# Altium integrated library Infineon_Microcontroller.IntLib: 721 symbols (part 29 of 66)
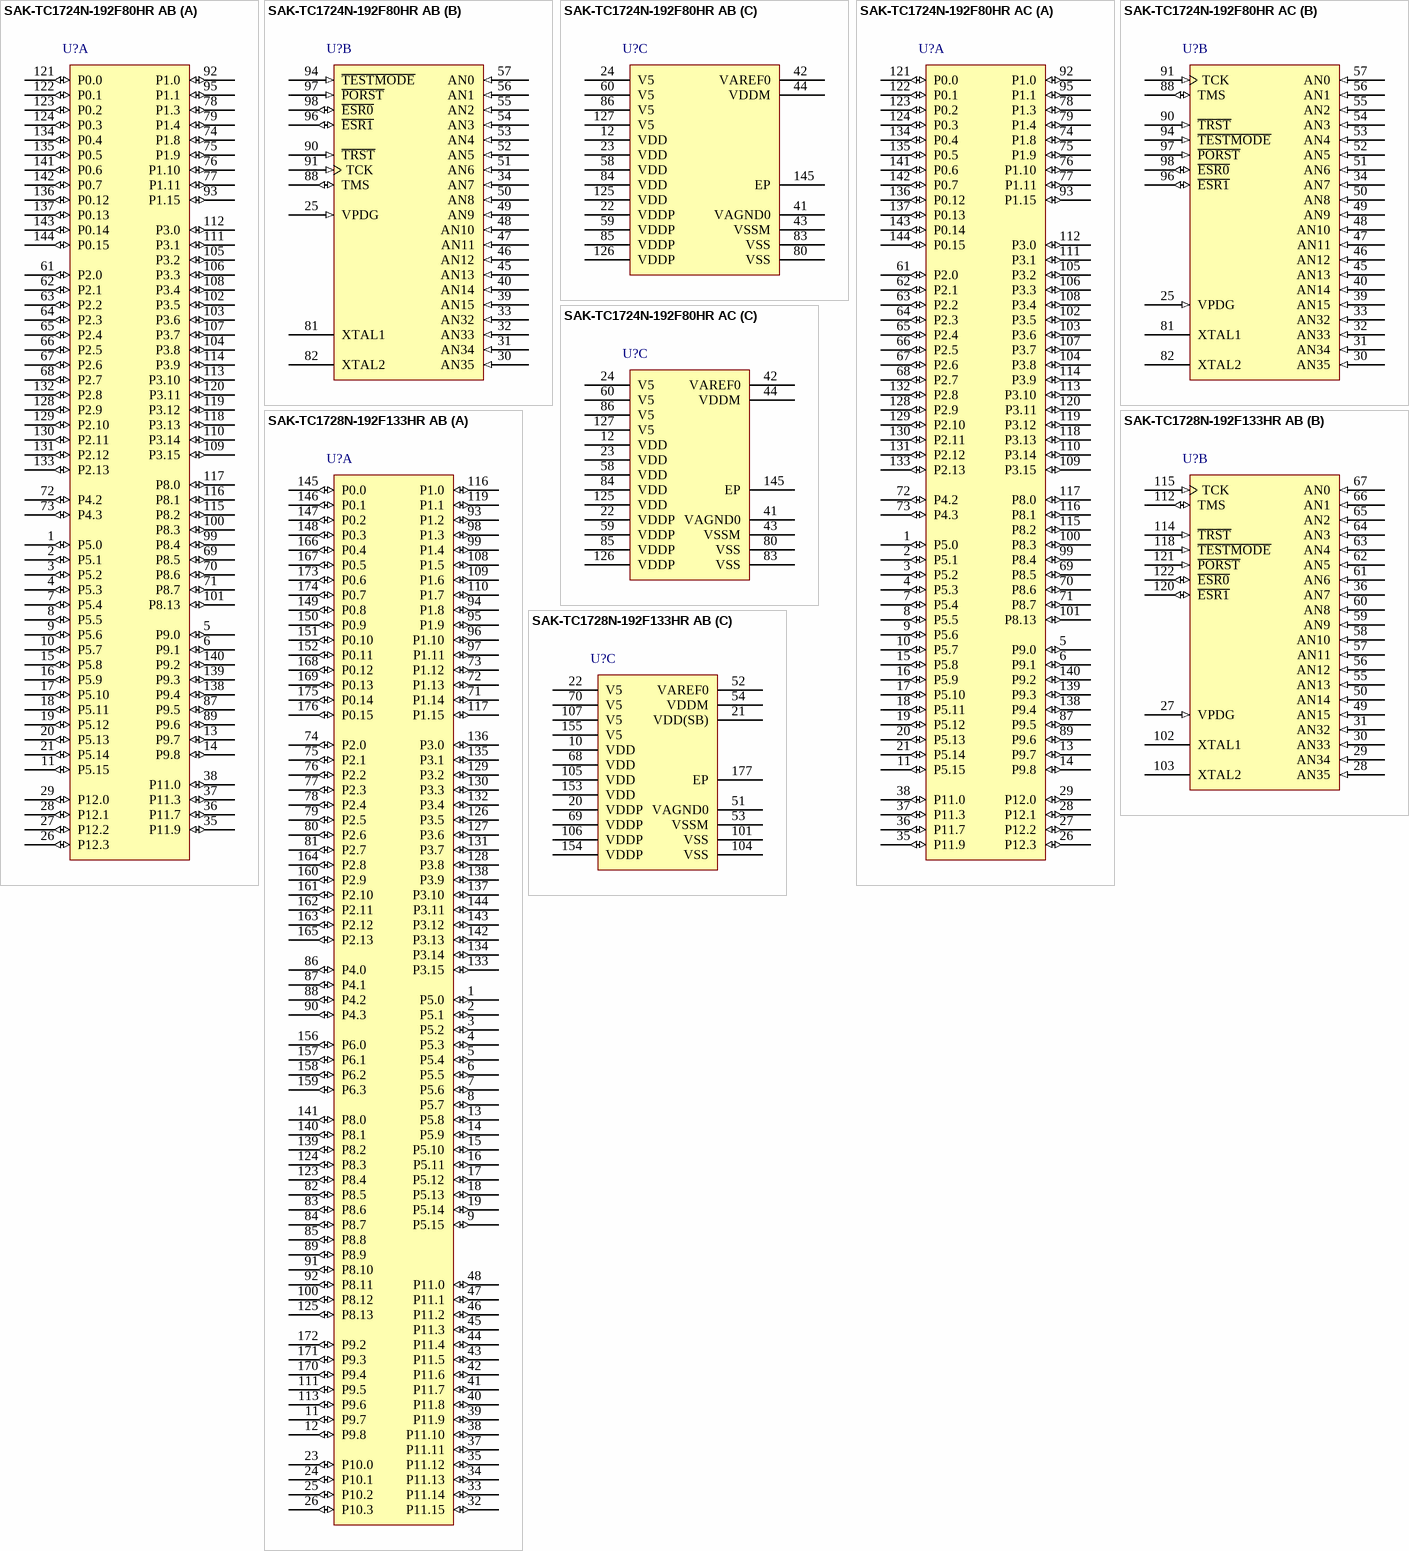
[diagram p146: symbols SAK-TC1724N-192F80HR AB to SAK-TC1728N-192F133HR AB]

## SAK-TC1724N-192F80HR AB
designator U?
80 MHz AUDO MCU with 1.5 MB Program Memory, 152 KByte SRAM, 3.3 V, -40 to 125 degC, PG-LQFP-144, Reel, Green; Manufacturer: Infineon; PartNumber: SAK-TC1724N-192F80HR AB; A / D input lines (incl. FADC): 28; CAN Nodes: 3; Digital I/O Lines: 95; DMA Channels: 16; DSP functionality (e.g MDU/MAC): TRUE; External Bus interface: FALSE; I/O Operation Voltages: 3.3 V; Instruction set architecture: TriCore v1.3.1; Instruction width [bits]: 32/16; LIN BSL loader (for fast Flash programming): FALSE; Max Clock Frequency: 80 MHz; Number of ADC Modules: 2; Program Memory: 1.5 MB; Serial I/O Interfaces: 8; Timed I/O Pins (PWM-Ch,CAPCOM): 77; Timer / Counter: 118; Type of Memory: Flash; Type of Serial I/O Interfaces: ASC(2), SSC(4), MSC(1), MLI(1); DatasheetVersion: Rev. 1.1; PackageVersion: V1.1, 03/2012; PackageReference: PG-LQFP-144-17; PackageDescription: 144-Pin Plastic (Green) Low Profile Quad Flat Package, Body 20 x 20 mm, Pitch 0.5 mm; E2PROM Emulation (Data-Flash): TRUE; FlexRay TM: FALSE; Floating Point Unit: TRUE; Green: TRUE; Halogen-free: TRUE; On-chip clock generation: TRUE; On-chip Voltage Regulator: TRUE; Oscillator Watchdog: TRUE; Packing: Reel; Peripheral Control Processor (PCP): TRUE; Power Modes: 3; SRAM (incl. Cache): 152 KByte; Watchdog Timer: TRUE; Mounting Technology: Surface Mount; Code_JEDEC: J-STD-020C; ComponentLink1Description: Manufacturer URL; ComponentLink1URL: http://www.infineon.com/; ComponentLink2Description: Datasheet; ComponentLink2URL: http://www.infineon.com/dgdl/TC1724_DS_V1.1.pdf?folderId=db3a304412b407950112b409ae7c0343&fileId=db3a30433580b3710135815455840086; ComponentLink3Description: Package Specification; ComponentLink3URL: http://www.infineon.com/dgdl/TC1724_DS_V1.1.pdf?folderId=db3a304412b407950112b409ae7c0343&fileId=db3a30433580b3710135815455840086
footprint INF-PG-LQFP-144-17_N (QFP, 144-Leads, Body 20x20mm, Pitch 0.5mm, Thermal Pad 7.5x7.5mm, IPC Medium Density)
footprint INF-PG-LQFP-144-17_L (QFP, 144-Leads, Body 20x20mm, Pitch 0.5mm, Thermal Pad 7.5x7.5mm, IPC High Density)
footprint INF-PG-LQFP-144-17_M (QFP, 144-Leads, Body 20x20mm, Pitch 0.5mm, Thermal Pad 7.5x7.5mm, IPC Low Density)
part A pins: 1 P5.0 (io), 2 P5.1 (io), 3 P5.2 (io), 4 P5.3 (io), 5 P9.0 (io), 6 P9.1 (io), 7 P5.4 (io), 8 P5.5 (io), 9 P5.6 (io), 10 P5.7 (io), 11 P5.15 (io), 13 P9.7 (io), 14 P9.8 (io), 15 P5.8 (io), 16 P5.9 (io), 17 P5.10 (io), 18 P5.11 (io), 19 P5.12 (io), 20 P5.13 (io), 21 P5.14 (io), 26 P12.3 (io), 27 P12.2 (io), 28 P12.1 (io), 29 P12.0 (io), 35 P11.9 (io), 36 P11.7 (io), 37 P11.3 (io), 38 P11.0 (io), 61 P2.0 (io), 62 P2.1 (io), 63 P2.2 (io), 64 P2.3 (io), 65 P2.4 (io), 66 P2.5 (io), 67 P2.6 (io), 68 P2.7 (io), 69 P8.5 (io), 70 P8.6 (io), 71 P8.7 (io), 72 P4.2 (io), 73 P4.3 (io), 74 P1.8 (io), 75 P1.9 (io), 76 P1.10 (io), 77 P1.11 (io), 78 P1.3 (io), 79 P1.4 (io), 87 P9.5 (io), 89 P9.6 (io), 92 P1.0 (io), 93 P1.15 (io), 95 P1.1 (io), 99 P8.4 (io), 100 P8.3 (io), 101 P8.13 (io), 102 P3.5 (io), 103 P3.6 (io), 104 P3.8 (io), 105 P3.2 (io), 106 P3.3 (io), 107 P3.7 (io), 108 P3.4 (io), 109 P3.15 (io), 110 P3.14 (io), 111 P3.1 (io), 112 P3.0 (io), 113 P3.10 (io), 114 P3.9 (io), 115 P8.2 (io), 116 P8.1 (io), 117 P8.0 (io), 118 P3.13 (io), 119 P3.12 (io), 120 P3.11 (io), 121 P0.0 (io), 122 P0.1 (io), 123 P0.2 (io), 124 P0.3 (io), 128 P2.9 (io), 129 P2.10 (io), 130 P2.11 (io), 131 P2.12 (io), 132 P2.8 (io), 133 P2.13 (io), 134 P0.4 (io), 135 P0.5 (io), 136 P0.12 (io), 137 P0.13 (io), 138 P9.4 (io), 139 P9.3 (io), 140 P9.2 (io), 141 P0.6 (io), 142 P0.7 (io), 143 P0.14 (io), 144 P0.15 (io)
part B pins: 25 VPDG (in) "EVR Pass Device Gate", 30 AN35 (in) "Analog Input 35: FADC_FADIN1N", 31 AN34 (in) "Analog Input 34: FADC_FADIN1P", 32 AN33 (in) "Analog Input 33: FADC_FADIN0N", 33 AN32 (in) "Analog Input 32: FADC_FADIN0P", 34 AN7 (in) "Analog Input 7: ADC0.CH7", 39 AN15 (in) "Analog Input 15: ADC0.CH15", 40 AN14 (in) "Analog Input 14: ADC0.CH14", 45 AN13 (in) "Analog Input 13: ADC0.CH13", 46 AN12 (in) "Analog Input 12: ADC0.CH12", 47 AN11 (in) "Analog Input 11: ADC0.CH11", 48 AN10 (in) "Analog Input 10: ADC0.CH10", 49 AN9 (in) "Analog Input 9: ADC0.CH9", 50 AN8 (in) "Analog Input 8: ADC0.CH8", 51 AN6 (in) "Analog Input 6: ADC0.CH6", 52 AN5 (in) "Analog Input 5: ADC0.CH5", 53 AN4 (in) "Analog Input 4: ADC0.CH4", 54 AN3 (in) "Analog Input 3: ADC0.CH3", 55 AN2 (in) "Analog Input 2: ADC0.CH2", 56 AN1 (in) "Analog Input 1: ADC0.CH1", 57 AN0 (in) "Analog Input 0: ADC0.CH0", 81 XTAL1 "Main Oscillator Input", 82 XTAL2 "Main Oscillator Output", 88 TMS (io), 90 ~{TRST} (in) "JTAG Reset Input", 91 TCK (in), 94 ~{TESTMODE} (in) "Test Mode Select Input", 96 ~{ESR1} (io) "External System Request Reset Input 1", 97 ~{PORST} (in) "Power On Reset", 98 ~{ESR0} (io) "External System Request Reset Input 0"
part C pins: 12 VDD (power) "Digital Core Power Supply (1.3V)", 22 VDDP (power) "Port Power Supply (3.3V)", 23 VDD (power) "Digital Core Power Supply (1.3V)", 24 V5 (power) "EVR Power Supply (5V)", 41 VAGND0 (power) "ADC Reference Ground", 42 VAREF0 (power) "ADC0 and ADC1 Reference Voltage", 43 VSSM (power) "ADC Analog Part Ground", 44 VDDM (power) "ADC Analog Part Power Supply (3.3V - 5V)", 58 VDD (power) "Digital Core Power Supply (1.3V)", 59 VDDP (power) "Port Power Supply (3.3V)", 60 V5 (power) "EVR Power Supply (5V)", 80 VSS (power) "Digital Ground", 83 VSS (power) "Digital Ground", 84 VDD (power) "Digital Core Power Supply (1.3V)", 85 VDDP (power) "Port Power Supply (3.3V)", 86 V5 (power) "EVR Power Supply (5V)", 125 VDD (power) "Digital Core Power Supply (1.3V)", 126 VDDP (power) "Port Power Supply (3.3V)", 127 V5 (power) "EVR Power Supply (5V)", 145 EP "Exposed Pad"

## SAK-TC1724N-192F80HR AC
designator U?
80 MHz AUDO MCU with 1.5 MByte Program Memory, 152 KByte SRAM, -40 to 125 degC, PG-LQFP-144, Reel, Green; Manufacturer: Infineon; PartNumber: SAK-TC1724N-192F80HR AC; A / D input lines (incl. FADC): 28; Digital I/O Lines: 95; DMA Channels: 16; DSP functionality (e.g MDU/MAC): FALSE; E2PROM Emulation (Data-Flash): TRUE; I/O Operation Voltages: 3.3 V; Instruction set architecture: TriCore(TM) v1.3.1 (32-bit); Instruction width [bits]: 32/16; LIN BSL loader (for fast Flash programming): FALSE; Max Clock Frequency: 80 MHz; Number of ADC Modules: 2; Power Modes: 3; Serial I/O Interfaces: 8; Timed I/O Pins (PWM-Ch,CAPCOM): 77; Timer / Counter: 118; Type of Memory: Flash; Type of Serial I/O Interfaces: UART, SPI, CAN, MSC (MicroSecond Channel), MLI (Multiprocessor Link Interface); DatasheetVersion: Rev. 1.2; PackageVersion: Mar-12; PackageReference: PG-LQFP-144-17; PackageDescription: 144-Pin Plastic (Green) Low Profile Quad Flat Package, 20 x 20 mm Body, 0.5 mm Pitch; External Bus interface: FALSE; FlexRayTM: FALSE; Floating Point Unit: TRUE; Green: TRUE; Halogen-free: TRUE; On-chip clock generation: TRUE; On-chip Voltage Regulator: TRUE; Oscillator Watchdog: TRUE; Packing: Reel; Peripheral Control Processor (PCP): TRUE; Program Memory: 1.5 MByte; SRAM (incl. Cache): 152 KByte; Watchdog Timer: TRUE; Mounting Technology: Surface Mount; Code_JEDEC: J-STD-020C; ComponentLink1Description: Manufacturer URL; ComponentLink1URL: http://www.infineon.com/; ComponentLink2Description: Datasheet; ComponentLink2URL: http://www.infineon.com/dgdl/TC1724_DS_v12.pdf?folderId=db3a304412b407950112b409ae7c0343&fileId=db3a30433580b3710135815455840086&ack=t; ComponentLink3Description: Package Specification; ComponentLink3URL: http://www.infineon.com/cms/packages/SMD_-_Surface_Mounted_Devices/P-PG-LQFP/P-PG-LQFP-144-17x_19x_21.html?__locale=en
footprint INF-PG-LQFP-144-17_N (QFP, 144-Leads, Body 20x20mm, Pitch 0.5mm, Thermal Pad 7.5x7.5mm, IPC Medium Density)
footprint INF-PG-LQFP-144-17_L (QFP, 144-Leads, Body 20x20mm, Pitch 0.5mm, Thermal Pad 7.5x7.5mm, IPC High Density)
footprint INF-PG-LQFP-144-17_M (QFP, 144-Leads, Body 20x20mm, Pitch 0.5mm, Thermal Pad 7.5x7.5mm, IPC Low Density)
part A pins: 1 P5.0 (io), 2 P5.1 (io), 3 P5.2 (io), 4 P5.3 (io), 5 P9.0 (io), 6 P9.1 (io), 7 P5.4 (io), 8 P5.5 (io), 9 P5.6 (io), 10 P5.7 (io), 11 P5.15 (io), 13 P9.7 (io), 14 P9.8 (io), 15 P5.8 (io), 16 P5.9 (io), 17 P5.10 (io), 18 P5.11 (io), 19 P5.12 (io), 20 P5.13 (io), 21 P5.14 (io), 26 P12.3 (io), 27 P12.2 (io), 28 P12.1 (io), 29 P12.0 (io), 35 P11.9 (io), 36 P11.7 (io), 37 P11.3 (io), 38 P11.0 (io), 61 P2.0 (io), 62 P2.1 (io), 63 P2.2 (io), 64 P2.3 (io), 65 P2.4 (io), 66 P2.5 (io), 67 P2.6 (io), 68 P2.7 (io), 69 P8.5 (io), 70 P8.6 (io), 71 P8.7 (io), 72 P4.2 (io), 73 P4.3 (io), 74 P1.8 (io), 75 P1.9 (io), 76 P1.10 (io), 77 P1.11 (io), 78 P1.3 (io), 79 P1.4 (io), 87 P9.5 (io), 89 P9.6 (io), 92 P1.0 (io), 93 P1.15 (io), 95 P1.1 (io), 99 P8.4 (io), 100 P8.3 (io), 101 P8.13 (io), 102 P3.5 (io), 103 P3.6 (io), 104 P3.8 (io), 105 P3.2 (io), 106 P3.3 (io), 107 P3.7 (io), 108 P3.4 (io), 109 P3.15 (io), 110 P3.14 (io), 111 P3.1 (io), 112 P3.0 (io), 113 P3.10 (io), 114 P3.9 (io), 115 P8.2 (io), 116 P8.1 (io), 117 P8.0 (io), 118 P3.13 (io), 119 P3.12 (io), 120 P3.11 (io), 121 P0.0 (io), 122 P0.1 (io), 123 P0.2 (io), 124 P0.3 (io), 128 P2.9 (io), 129 P2.10 (io), 130 P2.11 (io), 131 P2.12 (io), 132 P2.8 (io), 133 P2.13 (io), 134 P0.4 (io), 135 P0.5 (io), 136 P0.12 (io), 137 P0.13 (io), 138 P9.4 (io), 139 P9.3 (io), 140 P9.2 (io), 141 P0.6 (io), 142 P0.7 (io), 143 P0.14 (io), 144 P0.15 (io)
part B pins: 25 VPDG (in) "EVR Pass Device Gate", 30 AN35 (in) "Analog Input 35: FADC_FADIN1N", 31 AN34 (in) "Analog Input 34: FADC_FADIN1P", 32 AN33 (in) "Analog Input 33: FADC_FADIN0N", 33 AN32 (in) "Analog Input 32: FADC_FADIN0P", 34 AN7 (in) "Analog Input 7: ADC0.CH7", 39 AN15 (in) "Analog Input 15: ADC0.CH15", 40 AN14 (in) "Analog Input 14: ADC0.CH14", 45 AN13 (in) "Analog Input 13: ADC0.CH13", 46 AN12 (in) "Analog Input 12: ADC0.CH12", 47 AN11 (in) "Analog Input 11: ADC0.CH11", 48 AN10 (in) "Analog Input 10: ADC0.CH10", 49 AN9 (in) "Analog Input 9: ADC0.CH9", 50 AN8 (in) "Analog Input 8: ADC0.CH8", 51 AN6 (in) "Analog Input 6: ADC0.CH6", 52 AN5 (in) "Analog Input 5: ADC0.CH5", 53 AN4 (in) "Analog Input 4: ADC0.CH4", 54 AN3 (in) "Analog Input 3: ADC0.CH3", 55 AN2 (in) "Analog Input 2: ADC0.CH2", 56 AN1 (in) "Analog Input 1: ADC0.CH1", 57 AN0 (in) "Analog Input 0: ADC0.CH0", 81 XTAL1 "Main Oscillator Input", 82 XTAL2 "Main Oscillator Output", 88 TMS (io), 90 ~{TRST} (in) "JTAG Reset Input", 91 TCK (in), 94 ~{TESTMODE} (in) "Test Mode Select Input", 96 ~{ESR1} (io) "External System Request Reset Input 1", 97 ~{PORST} (in) "Power On Reset", 98 ~{ESR0} (io) "External System Request Reset Input 0"
part C pins: 12 VDD (power) "Digital Core Power Supply (1.3V)", 22 VDDP (power) "Port Power Supply (3.3V)", 23 VDD (power) "Digital Core Power Supply (1.3V)", 24 V5 (power) "EVR Power Supply (5V)", 41 VAGND0 (power) "ADC Reference Ground", 42 VAREF0 (power) "ADC0 and ADC1 Reference Voltage", 43 VSSM (power) "ADC Analog Part Ground", 44 VDDM (power) "ADC Analog Part Power Supply (3.3V - 5V)", 58 VDD (power) "Digital Core Power Supply (1.3V)", 59 VDDP (power) "Port Power Supply (3.3V)", 60 V5 (power) "EVR Power Supply (5V)", 80 VSS (power) "Digital Ground", 83 VSS (power) "Digital Ground", 84 VDD (power) "Digital Core Power Supply (1.3V)", 85 VDDP (power) "Port Power Supply (3.3V)", 86 V5 (power) "EVR Power Supply (5V)", 125 VDD (power) "Digital Core Power Supply (1.3V)", 126 VDDP (power) "Port Power Supply (3.3V)", 127 V5 (power) "EVR Power Supply (5V)", 145 EP "Exposed Pad"

## SAK-TC1728N-192F133HR AB
designator U?
133 MHz AUDO MCU with 1.5 MB Program Memory, 152 KByte SRAM, 3.3 V, -40 to 125 degC, PG-LQFP-176, Reel, Green; Manufacturer: Infineon; PartNumber: SAK-TC1728N-192F133HR AB; A / D input lines (incl. FADC): 36; CAN Nodes: 3; Digital I/O Lines: 95; DMA Channels: 16; DSP functionality (e.g MDU/MAC): TRUE; External Bus interface: FALSE; I/O Operation Voltages: 3.3 V; Instruction set architecture: TriCore v1.3.1; Instruction width [bits]: 32/16; LIN BSL loader (for fast Flash programming): FALSE; Max Clock Frequency: 133 MHz; Number of ADC Modules: 2; Program Memory: 1.5 MB; Serial I/O Interfaces: 8; Timed I/O Pins (PWM-Ch,CAPCOM): 93; Timer / Counter: 118; Type of Memory: Flash; Type of Serial I/O Interfaces: ASC(2), SSC(4), MSC(1), MLI(1); DatasheetVersion: Rev. 1.0; PackageVersion: V1.0, 02/2012; PackageReference: PG-LQFP-176-10; PackageDescription: 176-Pin Plastic (Green) Low Profile Quad Flat Package, Body 24 x 24 mm, Pitch 0.5 mm; E2PROM Emulation (Data-Flash): TRUE; FlexRay TM: FALSE; Floating Point Unit: TRUE; Green: TRUE; Halogen-free: TRUE; On-chip clock generation: TRUE; On-chip Voltage Regulator: TRUE; Oscillator Watchdog: TRUE; Packing: Reel; Peripheral Control Processor (PCP): TRUE; Power Modes: 3; SRAM (incl. Cache): 152 KByte; Watchdog Timer: TRUE; Mounting Technology: Surface Mount; Code_JEDEC: J-STD-020C; ComponentLink1Description: Manufacturer URL; ComponentLink1URL: http://www.infineon.com/; ComponentLink2Description: Datasheet; ComponentLink2URL: http://www.infineon.com/dgdl/TC1728_DS_V1_0.pdf?folderId=db3a304412b407950112b409ae7c0343&fileId=db3a304335c2937a0135e269414c4412; ComponentLink3Description: Package Specification; ComponentLink3URL: http://www.infineon.com/dgdl/TC1728_DS_V1_0.pdf?folderId=db3a304412b407950112b409ae7c0343&fileId=db3a304335c2937a0135e269414c4412
footprint INF-PG-LQFP-176-10_N (QFP, 176-Leads, Body 24x24mm, Pitch 0.5mm, Thermal Pad 7.5x7.5mm, IPC Medium Density)
footprint INF-PG-LQFP-176-10_L (QFP, 176-Leads, Body 24x24mm, Pitch 0.5mm, Thermal Pad 7.5x7.5mm, IPC High Density)
footprint INF-PG-LQFP-176-10_M (QFP, 176-Leads, Body 24x24mm, Pitch 0.5mm, Thermal Pad 7.5x7.5mm, IPC Low Density)
part A pins: 1 P5.0 (io), 2 P5.1 (io), 3 P5.2 (io), 4 P5.3 (io), 5 P5.4 (io), 6 P5.5 (io), 7 P5.6 (io), 8 P5.7 (io), 9 P5.15 (io), 11 P9.7 (io), 12 P9.8 (io), 13 P5.8 (io), 14 P5.9 (io), 15 P5.10 (io), 16 P5.11 (io), 17 P5.12 (io), 18 P5.13 (io), 19 P5.14 (io), 23 P10.0 (io), 24 P10.1 (io), 25 P10.2 (io), 26 P10.3 (io), 32 P11.15 (io), 33 P11.14 (io), 34 P11.13 (io), 35 P11.12 (io), 37 P11.11 (io), 38 P11.10 (io), 39 P11.9 (io), 40 P11.8 (io), 41 P11.7 (io), 42 P11.6 (io), 43 P11.5 (io), 44 P11.4 (io), 45 P11.3 (io), 46 P11.2 (io), 47 P11.1 (io), 48 P11.0 (io), 71 P1.14 (io), 72 P1.13 (io), 73 P1.12 (io), 74 P2.0 (io), 75 P2.1 (io), 76 P2.2 (io), 77 P2.3 (io), 78 P2.4 (io), 79 P2.5 (io), 80 P2.6 (io), 81 P2.7 (io), 82 P8.5 (io), 83 P8.6 (io), 84 P8.7 (io), 85 P8.8 (io), 86 P4.0 (io), 87 P4.1 (io), 88 P4.2 (io), 89 P8.9 (io), 90 P4.3 (io), 91 P8.10 (io), 92 P8.11 (io), 93 P1.2 (io), 94 P1.8 (io), 95 P1.9 (io), 96 P1.10 (io), 97 P1.11 (io), 98 P1.3 (io), 99 P1.4 (io), 100 P8.12 (io), 108 P1.5 (io), 109 P1.6 (io), 110 P1.7 (io), 111 P9.5 (io), 113 P9.6 (io), 116 P1.0 (io), 117 P1.15 (io), 119 P1.1 (io), 123 P8.4 (io), 124 P8.3 (io), 125 P8.13 (io), 126 P3.5 (io), 127 P3.6 (io), 128 P3.8 (io), 129 P3.2 (io), 130 P3.3 (io), 131 P3.7 (io), 132 P3.4 (io), 133 P3.15 (io), 134 P3.14 (io), 135 P3.1 (io), 136 P3.0 (io), 137 P3.10 (io), 138 P3.9 (io), 139 P8.2 (io), 140 P8.1 (io), 141 P8.0 (io), 142 P3.13 (io), 143 P3.12 (io), 144 P3.11 (io), 145 P0.0 (io), 146 P0.1 (io), 147 P0.2 (io), 148 P0.3 (io), 149 P0.8 (io), 150 P0.9 (io), 151 P0.10 (io), 152 P0.11 (io), 156 P6.0 (io), 157 P6.1 (io), 158 P6.2 (io), 159 P6.3 (io), 160 P2.9 (io), 161 P2.10 (io), 162 P2.11 (io), 163 P2.12 (io), 164 P2.8 (io), 165 P2.13 (io), 166 P0.4 (io), 167 P0.5 (io), 168 P0.12 (io), 169 P0.13 (io), 170 P9.4 (io), 171 P9.3 (io), 172 P9.2 (io), 173 P0.6 (io), 174 P0.7 (io), 175 P0.14 (io), 176 P0.15 (io)
part B pins: 27 VPDG (in) "EVR Pass Device Gate", 28 AN35 (in) "Analog Input 35: FADC_FADIN1N", 29 AN34 (in) "Analog Input 34: FADC_FADIN1P", 30 AN33 (in) "Analog Input 33: FADC_FADIN0N", 31 AN32 (in) "Analog Input 32: FADC_FADIN0P", 36 AN7 (in) "Analog Input 7: ADC0.CH7", 49 AN15 (in) "Analog Input 15: ADC0.CH15", 50 AN14 (in) "Analog Input 14: ADC0.CH14", 55 AN13 (in) "Analog Input 13: ADC0.CH13", 56 AN12 (in) "Analog Input 12: ADC0.CH12", 57 AN11 (in) "Analog Input 11: ADC0.CH11", 58 AN10 (in) "Analog Input 10: ADC0.CH10", 59 AN9 (in) "Analog Input 9: ADC0.CH9", 60 AN8 (in) "Analog Input 8: ADC0.CH8", 61 AN6 (in) "Analog Input 6: ADC0.CH6", 62 AN5 (in) "Analog Input 5: ADC0.CH5", 63 AN4 (in) "Analog Input 4: ADC0.CH4", 64 AN3 (in) "Analog Input 3: ADC0.CH3", 65 AN2 (in) "Analog Input 2: ADC0.CH2", 66 AN1 (in) "Analog Input 1: ADC0.CH1", 67 AN0 (in) "Analog Input 0: ADC0.CH0", 102 XTAL1 "Main Oscillator Input", 103 XTAL2 "Main Oscillator Output", 112 TMS (io), 114 ~{TRST} (in) "JTAG Reset Input", 115 TCK (in), 118 ~{TESTMODE} (in) "Test Mode Select Input", 120 ~{ESR1} (io) "External System Request Reset Input 1", 121 ~{PORST} (in) "Power On Reset", 122 ~{ESR0} (io) "External System Request Reset Input 0"
part C pins: 10 VDD (power) "Digital Core Power Supply (1.3V)", 20 VDDP (power) "Port Power Supply (3.3V)", 21 VDD(SB) (power) "Digital Core Power Supply (1.3V)", 22 V5 (power) "EVR Power Supply (5V)", 51 VAGND0 (power) "ADC Reference Ground", 52 VAREF0 (power) "ADC0 and ADC1 Reference Voltage", 53 VSSM (power) "ADC Analog Part Ground", 54 VDDM (power) "ADC Analog Part Power Supply (3.3V - 5V)", 68 VDD (power) "Digital Core Power Supply (1.3V)", 69 VDDP (power) "Port Power Supply (3.3V)", 70 V5 (power) "EVR Power Supply (5V)", 101 VSS (power) "Digital Ground", 104 VSS (power) "Digital Ground", 105 VDD (power) "Digital Core Power Supply (1.3V)", 106 VDDP (power) "Port Power Supply (3.3V)", 107 V5 (power) "EVR Power Supply (5V)", 153 VDD (power) "Digital Core Power Supply (1.3V)", 154 VDDP (power) "Port Power Supply (3.3V)", 155 V5 (power) "EVR Power Supply (5V)", 177 EP "Exposed Pad"

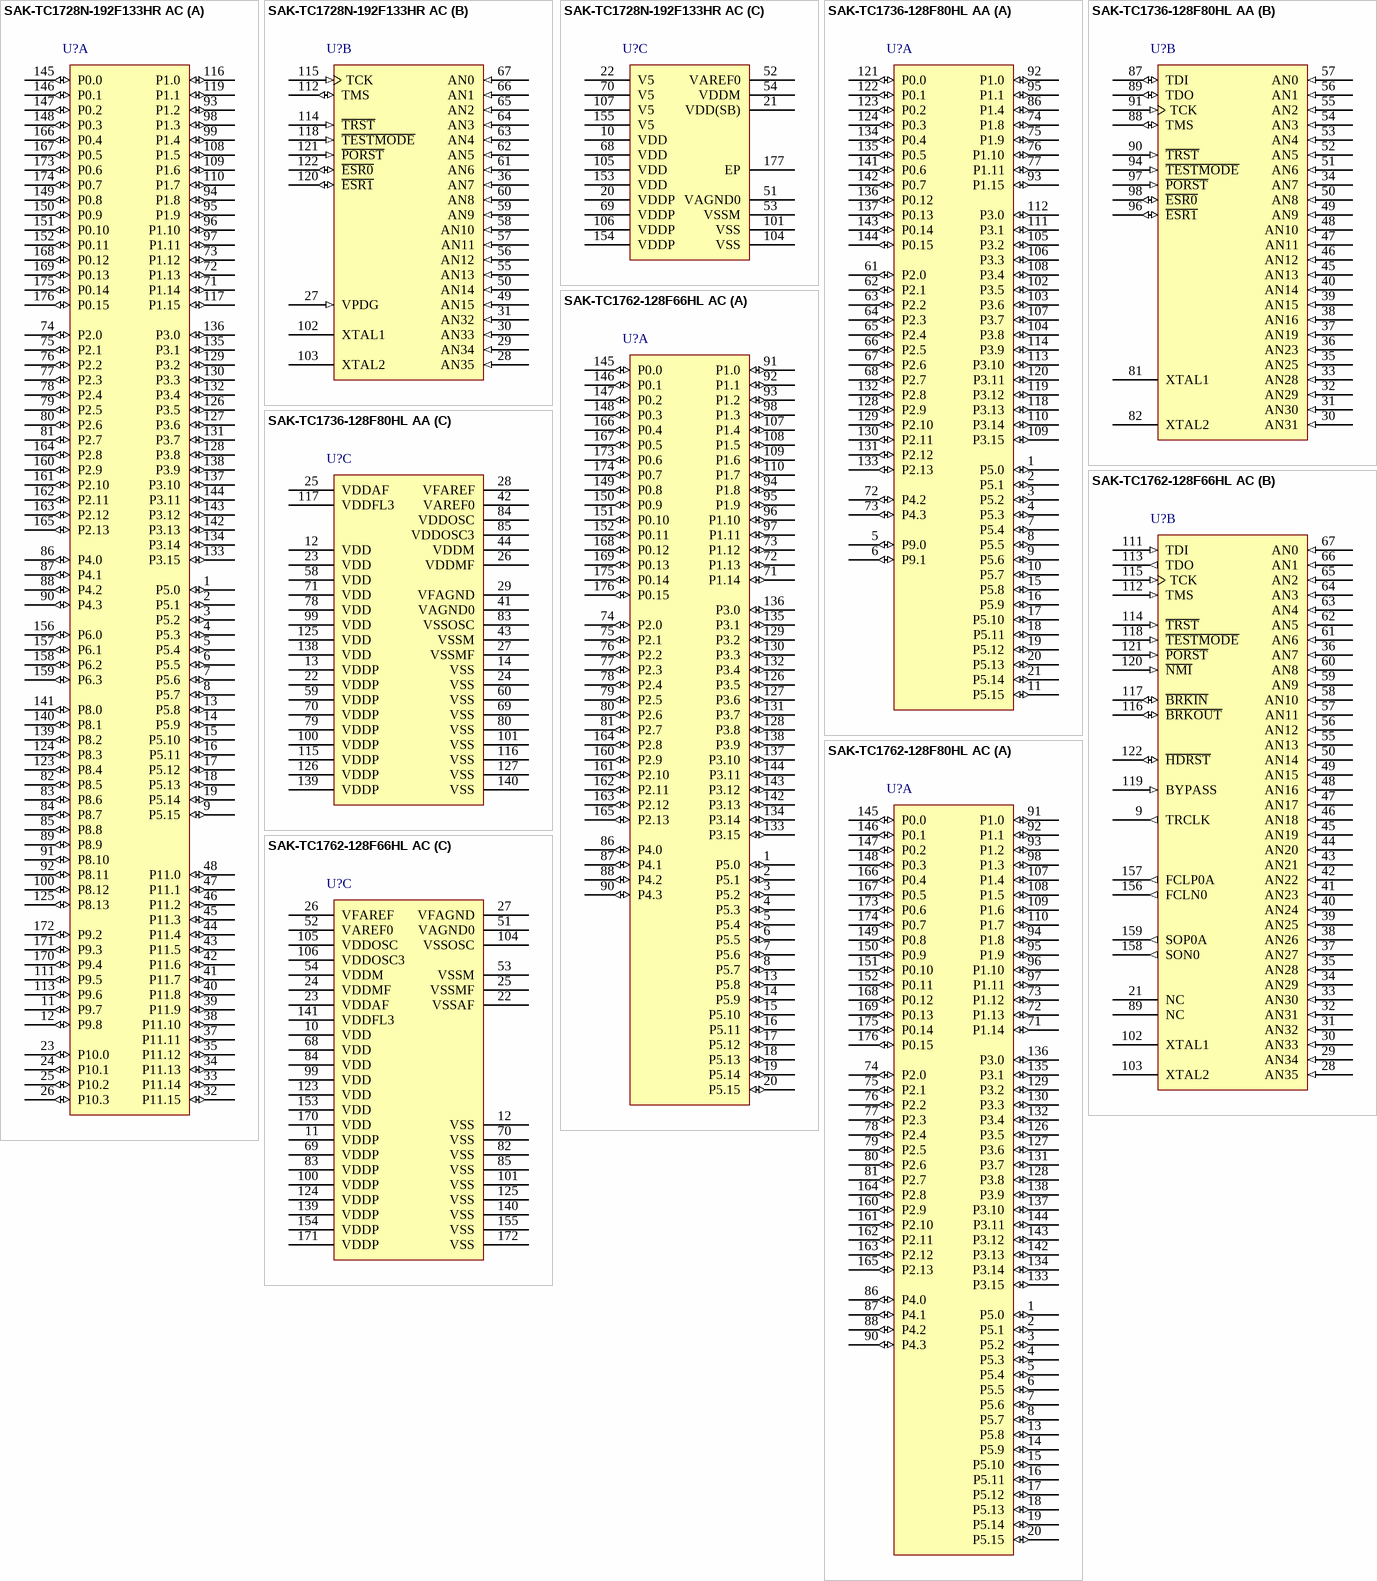
[diagram p51: symbols SAK-TC1728N-192F133HR AC to SAK-TC1762-128F80HL AC]

## SAK-TC1728N-192F133HR AC
designator U?
133 MHz AUDO MCU with 1.5 Mbyte Program Memory, 152 KByte SRAM, -40 to 125 degC, PG-LQFP-176, Reel, Green; Manufacturer: Infineon; PartNumber: SAK-TC1728N-192F133HR AC; A / D input lines (incl. FADC): 36; Digital I/O Lines: 95; DMA Channels: 16; DSP functionality (e.g MDU/MAC): FALSE; E2PROM Emulation (Data-Flash): TRUE; I/O Operation Voltages: 3.3 V; Instruction set architecture: TriCore(TM) v1.3.1 (32-bit); Instruction width [bits]: 32/16; LIN BSL loader (for fast Flash programming): FALSE; Max Clock Frequency: 133 MHz; Number of ADC Modules: 2; Power Modes: 3; Serial I/O Interfaces: 8; Timed I/O Pins (PWM-Ch,CAPCOM): 93; Timer / Counter: 118; Type of Memory: Flash; Type of Serial I/O Interfaces: UART, SPI, CAN, MSC (MicroSecond Channel), MLI (Multiprocessor Link Interface); DatasheetVersion: Rev. 1.2; PackageVersion: V1.0, 02/2012; PackageReference: PG-LQFP-176-10; PackageDescription: 176-Pin Plastic (Green) Low Profile Quad Flat Package, 24 x 24 mm Body, 0.5 mm Pitch; External Bus interface: FALSE; FlexRayTM: FALSE; Floating Point Unit: TRUE; Green: TRUE; Halogen-free: TRUE; On-chip clock generation: TRUE; On-chip Voltage Regulator: TRUE; Oscillator Watchdog: TRUE; Packing: Reel; Peripheral Control Processor (PCP): TRUE; Program Memory: 1.5 Mbyte; SRAM (incl. Cache): 152 KByte; Watchdog Timer: TRUE; Mounting Technology: Surface Mount; Code_JEDEC: J-STD-020C; ComponentLink1Description: Manufacturer URL; ComponentLink1URL: http://www.infineon.com/; ComponentLink2Description: Datasheet; ComponentLink2URL: http://www.infineon.com/dgdl/TC1728_DS_V1.1.pdf?folderId=db3a304412b407950112b409ae7c0343&fileId=db3a304335c2937a0135e269414c4412; ComponentLink3Description: Package Specification; ComponentLink3URL: http://www.infineon.com/dgdl/TC1728_DS_V1.1.pdf?folderId=db3a304412b407950112b409ae7c0343&fileId=db3a304335c2937a0135e269414c4412&ack=t
footprint INF-PG-LQFP-176-10_N (QFP, 176-Leads, Body 24x24mm, Pitch 0.5mm, Thermal Pad 7.5x7.5mm, IPC Medium Density)
footprint INF-PG-LQFP-176-10_L (QFP, 176-Leads, Body 24x24mm, Pitch 0.5mm, Thermal Pad 7.5x7.5mm, IPC High Density)
footprint INF-PG-LQFP-176-10_M (QFP, 176-Leads, Body 24x24mm, Pitch 0.5mm, Thermal Pad 7.5x7.5mm, IPC Low Density)
part A pins: 1 P5.0 (io), 2 P5.1 (io), 3 P5.2 (io), 4 P5.3 (io), 5 P5.4 (io), 6 P5.5 (io), 7 P5.6 (io), 8 P5.7 (io), 9 P5.15 (io), 11 P9.7 (io), 12 P9.8 (io), 13 P5.8 (io), 14 P5.9 (io), 15 P5.10 (io), 16 P5.11 (io), 17 P5.12 (io), 18 P5.13 (io), 19 P5.14 (io), 23 P10.0 (io), 24 P10.1 (io), 25 P10.2 (io), 26 P10.3 (io), 32 P11.15 (io), 33 P11.14 (io), 34 P11.13 (io), 35 P11.12 (io), 37 P11.11 (io), 38 P11.10 (io), 39 P11.9 (io), 40 P11.8 (io), 41 P11.7 (io), 42 P11.6 (io), 43 P11.5 (io), 44 P11.4 (io), 45 P11.3 (io), 46 P11.2 (io), 47 P11.1 (io), 48 P11.0 (io), 71 P1.14 (io), 72 P1.13 (io), 73 P1.12 (io), 74 P2.0 (io), 75 P2.1 (io), 76 P2.2 (io), 77 P2.3 (io), 78 P2.4 (io), 79 P2.5 (io), 80 P2.6 (io), 81 P2.7 (io), 82 P8.5 (io), 83 P8.6 (io), 84 P8.7 (io), 85 P8.8 (io), 86 P4.0 (io), 87 P4.1 (io), 88 P4.2 (io), 89 P8.9 (io), 90 P4.3 (io), 91 P8.10 (io), 92 P8.11 (io), 93 P1.2 (io), 94 P1.8 (io), 95 P1.9 (io), 96 P1.10 (io), 97 P1.11 (io), 98 P1.3 (io), 99 P1.4 (io), 100 P8.12 (io), 108 P1.5 (io), 109 P1.6 (io), 110 P1.7 (io), 111 P9.5 (io), 113 P9.6 (io), 116 P1.0 (io), 117 P1.15 (io), 119 P1.1 (io), 123 P8.4 (io), 124 P8.3 (io), 125 P8.13 (io), 126 P3.5 (io), 127 P3.6 (io), 128 P3.8 (io), 129 P3.2 (io), 130 P3.3 (io), 131 P3.7 (io), 132 P3.4 (io), 133 P3.15 (io), 134 P3.14 (io), 135 P3.1 (io), 136 P3.0 (io), 137 P3.10 (io), 138 P3.9 (io), 139 P8.2 (io), 140 P8.1 (io), 141 P8.0 (io), 142 P3.13 (io), 143 P3.12 (io), 144 P3.11 (io), 145 P0.0 (io), 146 P0.1 (io), 147 P0.2 (io), 148 P0.3 (io), 149 P0.8 (io), 150 P0.9 (io), 151 P0.10 (io), 152 P0.11 (io), 156 P6.0 (io), 157 P6.1 (io), 158 P6.2 (io), 159 P6.3 (io), 160 P2.9 (io), 161 P2.10 (io), 162 P2.11 (io), 163 P2.12 (io), 164 P2.8 (io), 165 P2.13 (io), 166 P0.4 (io), 167 P0.5 (io), 168 P0.12 (io), 169 P0.13 (io), 170 P9.4 (io), 171 P9.3 (io), 172 P9.2 (io), 173 P0.6 (io), 174 P0.7 (io), 175 P0.14 (io), 176 P0.15 (io)
part B pins: 27 VPDG (in) "EVR Pass Device Gate", 28 AN35 (in) "Analog Input 35: FADC_FADIN1N", 29 AN34 (in) "Analog Input 34: FADC_FADIN1P", 30 AN33 (in) "Analog Input 33: FADC_FADIN0N", 31 AN32 (in) "Analog Input 32: FADC_FADIN0P", 36 AN7 (in) "Analog Input 7: ADC0.CH7", 49 AN15 (in) "Analog Input 15: ADC0.CH15", 50 AN14 (in) "Analog Input 14: ADC0.CH14", 55 AN13 (in) "Analog Input 13: ADC0.CH13", 56 AN12 (in) "Analog Input 12: ADC0.CH12", 57 AN11 (in) "Analog Input 11: ADC0.CH11", 58 AN10 (in) "Analog Input 10: ADC0.CH10", 59 AN9 (in) "Analog Input 9: ADC0.CH9", 60 AN8 (in) "Analog Input 8: ADC0.CH8", 61 AN6 (in) "Analog Input 6: ADC0.CH6", 62 AN5 (in) "Analog Input 5: ADC0.CH5", 63 AN4 (in) "Analog Input 4: ADC0.CH4", 64 AN3 (in) "Analog Input 3: ADC0.CH3", 65 AN2 (in) "Analog Input 2: ADC0.CH2", 66 AN1 (in) "Analog Input 1: ADC0.CH1", 67 AN0 (in) "Analog Input 0: ADC0.CH0", 102 XTAL1 "Main Oscillator Input", 103 XTAL2 "Main Oscillator Output", 112 TMS (io), 114 ~{TRST} (in) "JTAG Reset Input", 115 TCK (in), 118 ~{TESTMODE} (in) "Test Mode Select Input", 120 ~{ESR1} (io) "External System Request Reset Input 1", 121 ~{PORST} (in) "Power On Reset", 122 ~{ESR0} (io) "External System Request Reset Input 0"
part C pins: 10 VDD (power) "Digital Core Power Supply (1.3V)", 20 VDDP (power) "Port Power Supply (3.3V)", 21 VDD(SB) (power) "Digital Core Power Supply (1.3V)", 22 V5 (power) "EVR Power Supply (5V)", 51 VAGND0 (power) "ADC Reference Ground", 52 VAREF0 (power) "ADC0 and ADC1 Reference Voltage", 53 VSSM (power) "ADC Analog Part Ground", 54 VDDM (power) "ADC Analog Part Power Supply (3.3V - 5V)", 68 VDD (power) "Digital Core Power Supply (1.3V)", 69 VDDP (power) "Port Power Supply (3.3V)", 70 V5 (power) "EVR Power Supply (5V)", 101 VSS (power) "Digital Ground", 104 VSS (power) "Digital Ground", 105 VDD (power) "Digital Core Power Supply (1.3V)", 106 VDDP (power) "Port Power Supply (3.3V)", 107 V5 (power) "EVR Power Supply (5V)", 153 VDD (power) "Digital Core Power Supply (1.3V)", 154 VDDP (power) "Port Power Supply (3.3V)", 155 V5 (power) "EVR Power Supply (5V)", 177 EP "Exposed Pad"

## SAK-TC1736-128F80HL AA
designator U?
80 MHz AUDO MCU with 1 MB Program Memory, 48 KByte SRAM, 3.3 V, 5 V, -40 to 125 degC, PG-LQFP-144, Tray, Green; Manufacturer: Infineon; PartNumber: SAK-TC1736-128F80HL AA; A / D input lines (incl. FADC): 24; CAN Nodes: 2; Digital I/O Lines: 70; DMA Channels: 8; DSP functionality (e.g MDU/MAC): TRUE; External Bus interface: FALSE; Instruction set architecture: TriCore v1.3.1; Instruction width [bits]: 32/16; LIN BSL loader (for fast Flash programming): FALSE; Max Clock Frequency: 80 MHz; Packing: Reel; Power Modes: 3; Program Memory: 1 MB; Serial I/O Interfaces: 0; Timed I/O Pins (PWM-Ch,CAPCOM): 53; Type of Memory: Flash; Type of Serial I/O Interfaces: ASC(2), SSC(2), MSC(1), MLI(1); DatasheetVersion: Rev. 1.1; PackageVersion: Feb-08; PackageReference: PG-LQFP-144-10; PackageDescription: 144-Pin Plastic (Green) Low Profile Quad Flat Package, Body 20 x 20 mm, Pitch 0.5 mm; Supplier 1: Mouser; Supplier Part Number 1: 726-SAKTC1736128F80H; Supplier 2: Digi-Key; Supplier Part Number 2: SAK-TC1736-128F80HL AA-ND; E2PROM Emulation (Data-Flash): TRUE; FlexRay TM: FALSE; Floating Point Unit: TRUE; Green: TRUE; Halogen-free: TRUE; I/O Operation Voltages: 3.3 V, 5 V; Number of ADC Modules: 2; On-chip clock generation: TRUE; On-chip Voltage Regulator: FALSE; Oscillator Watchdog: TRUE; Peripheral Control Processor (PCP): FALSE; SRAM (incl. Cache): 48 KByte; Timer / Counter: 0; Watchdog Timer: TRUE; Mounting Technology: Surface Mount; ComponentLink1Description: Manufacturer URL; ComponentLink1URL: http://www.infineon.com/; ComponentLink2Description: Datasheet; ComponentLink2URL: http://www.infineon.com/dgdl/TC1736_DS_V1.1.pdf?folderId=db3a3043156fd5730115b892639c0e97&fileId=db3a30432313ff5e01234c70c5ed2f70; ComponentLink3Description: Package Specification; ComponentLink3URL: http://www.infineon.com/dgdl/PG-LQFP-144-9%2C-10-Package_Overview.pdf?folderId=db3a304317a748360117f86374de32b6&fileId=db3a304317a7483601183253e0e66cb3
footprint INF-PG-LQFP-144-10_N (QFP, 144-Leads, Body 20x20mm, Pitch 0.5mm, IPC Medium Density)
footprint INF-PG-LQFP-144-10_L (QFP, 144-Leads, Body 20x20mm, Pitch 0.5mm, IPC High Density)
footprint INF-PG-LQFP-144-10_M (QFP, 144-Leads, Body 20x20mm, Pitch 0.5mm, IPC Low Density)
part A pins: 1 P5.0 (io), 2 P5.1 (io), 3 P5.2 (io), 4 P5.3 (io), 5 P9.0 (io), 6 P9.1 (io), 7 P5.4 (io), 8 P5.5 (io), 9 P5.6 (io), 10 P5.7 (io), 11 P5.15 (io), 15 P5.8 (io), 16 P5.9 (io), 17 P5.10 (io), 18 P5.11 (io), 19 P5.12 (io), 20 P5.13 (io), 21 P5.14 (io), 61 P2.0 (io), 62 P2.1 (io), 63 P2.2 (io), 64 P2.3 (io), 65 P2.4 (io), 66 P2.5 (io), 67 P2.6 (io), 68 P2.7 (io), 72 P4.2 (io), 73 P4.3 (io), 74 P1.8 (io), 75 P1.9 (io), 76 P1.10 (io), 77 P1.11 (io), 86 P1.4 (io), 92 P1.0 (io), 93 P1.15 (io), 95 P1.1 (io), 102 P3.5 (io), 103 P3.6 (io), 104 P3.8 (io), 105 P3.2 (io), 106 P3.3 (io), 107 P3.7 (io), 108 P3.4 (io), 109 P3.15 (io), 110 P3.14 (io), 111 P3.1 (io), 112 P3.0 (io), 113 P3.10 (io), 114 P3.9 (io), 118 P3.13 (io), 119 P3.12 (io), 120 P3.11 (io), 121 P0.0 (io), 122 P0.1 (io), 123 P0.2 (io), 124 P0.3 (io), 128 P2.9 (io), 129 P2.10 (io), 130 P2.11 (io), 131 P2.12 (io), 132 P2.8 (io), 133 P2.13 (io), 134 P0.4 (io), 135 P0.5 (io), 136 P0.12 (io), 137 P0.13 (io), 141 P0.6 (io), 142 P0.7 (io), 143 P0.14 (io), 144 P0.15 (io)
part B pins: 30 AN31 (in) "Analog Input 31", 31 AN30 (in) "Analog Input 30", 32 AN29 (in) "Analog Input 29", 33 AN28 (in) "Analog Input 28", 34 AN7 (in) "Analog Input 7", 35 AN25 (in) "Analog Input 25", 36 AN23 (in) "Analog Input 23", 37 AN19 (in) "Analog Input 19", 38 AN16 (in) "Analog Input 16", 39 AN15 (in) "Analog Input 15", 40 AN14 (in) "Analog Input 14", 45 AN13 (in) "Analog Input 13", 46 AN12 (in) "Analog Input 12", 47 AN11 (in) "Analog Input 11", 48 AN10 (in) "Analog Input 10", 49 AN9 (in) "Analog Input 9", 50 AN8 (in) "Analog Input 8", 51 AN6 (in) "Analog Input 6", 52 AN5 (in) "Analog Input 5", 53 AN4 (in) "Analog Input 4", 54 AN3 (in) "Analog Input 3", 55 AN2 (in) "Analog Input 2", 56 AN1 (in) "Analog Input 1", 57 AN0 (in) "Analog Input 0", 81 XTAL1 "Main Oscillator Input", 82 XTAL2 "Main Oscillator Output", 87 TDI (io) "JTAG Serial Data Input / OCDS Break Input / OCDS Break Output (controlled by OCDS module)", 88 TMS (io) "JTAG State Machine Control Input / Device Access Port Line 1", 89 TDO (io) "JTAG Serial Data Output / Device Access Port Line 2 / OCDS Break Input / OCDS Break Output (controlled by OCDS module)", 90 ~{TRST} (in) "JTAG Reset Input", 91 TCK (in), 94 ~{TESTMODE} (in) "Test Mode Select Input", 96 ~{ESR1} (io) "External System Request Reset Input 1", 97 ~{PORST} (in) "Power On Reset Input", 98 ~{ESR0} (io) "External System Request Reset Input 0"
part C pins: 12 VDD (power) "Digital Core Power Supply (1.5V)", 13 VDDP (power) "Port Power Supply (3.3V)", 14 VSS (power) "Digital Ground", 22 VDDP (power) "Port Power Supply (3.3V)", 23 VDD (power) "Digital Core Power Supply (1.5V)", 24 VSS (power) "Digital Ground", 25 VDDAF (power) "FADC Analog Part Logic Power Supply (1.5V)", 26 VDDMF (power) "FADC Analog Part Power Supply (3.3V)2)", 27 VSSMF (power), 28 VFAREF (power) "FADC Reference Voltage", 29 VFAGND (power) "FADC Reference Ground", 41 VAGND0 (power) "ADC Reference Ground", 42 VAREF0 (power) "ADC Reference Voltage", 43 VSSM (power) "ADC Analog Part Ground", 44 VDDM (power) "ADC Analog Part Power Supply (3.3V - 5V)", 58 VDD (power) "Digital Core Power Supply (1.5V)", 59 VDDP (power) "Port Power Supply (3.3V)", 60 VSS (power) "Digital Ground", 69 VSS (power) "Digital Ground", 70 VDDP (power) "Port Power Supply (3.3V)", 71 VDD (power) "Digital Core Power Supply (1.5V)", 78 VDD (power) "Digital Core Power Supply (1.5V)", 79 VDDP (power) "Port Power Supply (3.3V)", 80 VSS (power) "Digital Ground", 83 VSSOSC (power) "Main Oscillator and PLL Ground", 84 VDDOSC (power) "Main Oscillator and PLL Power Supply (1.5V)", 85 VDDOSC3 (power) "Main Oscillator Power Supply (3.3V)", 99 VDD (power) "Digital Core Power Supply (1.5V)", 100 VDDP (power) "Port Power Supply (3.3V)", 101 VSS (power) "Digital Ground", 115 VDDP (power) "Port Power Supply (3.3V)", 116 VSS (power) "Digital Ground", 117 VDDFL3 (power) "Power Supply for Flash (3.3V)", 125 VDD (power) "Digital Core Power Supply (1.5V)", 126 VDDP (power) "Port Power Supply (3.3V)", 127 VSS (power) "Digital Ground", 138 VDD (power) "Digital Core Power Supply (1.5V)", 139 VDDP (power) "Port Power Supply (3.3V)", 140 VSS (power) "Digital Ground"

## SAK-TC1762-128F66HL AC
designator U?
66 MHz AUDO MCU with 1 MB Program Memory, 52 KByte SRAM, 3.3 V, -40 to 125 degC, PG-LQFP-176, Reel, Green; Manufacturer: Infineon; PartNumber: SAK-TC1762-128F66HL AC; A / D input lines (incl. FADC): 36; CAN Nodes: 2; Digital I/O Lines: 81; DMA Channels: 8; DSP functionality (e.g MDU/MAC): TRUE; External Bus interface: FALSE; I/O Operation Voltages: 3.3 V; Instruction set architecture: TriCore v1.3; Instruction width [bits]: 32/16; LIN BSL loader (for fast Flash programming): FALSE; Max Clock Frequency: 66 MHz; Power Modes: 4; Program Memory: 1 MB; Serial I/O Interfaces: 5; Timed I/O Pins (PWM-Ch,CAPCOM): 48; Timer / Counter: 98; Type of Memory: Flash; Type of Serial I/O Interfaces: ASC(2), SSC(1), MSC(1), MLI(1); DatasheetVersion: Rev. 1.0; PackageVersion: Jun-08; PackageReference: PG-LQFP-176-2; PackageDescription: 176-Pin Plastic (Green) Low Profile Quad Flat Package, Body 24 x 24 mm, Pitch 0.5 mm; Supplier 1: Digi-Key; Supplier Part Number 1: SAK-TC1762-128F66HL AC-ND; E2PROM Emulation (Data-Flash): TRUE; FlexRay TM: FALSE; Floating Point Unit: TRUE; Green: TRUE; Halogen-free: TRUE; Number of ADC Modules: 2; On-chip clock generation: TRUE; On-chip Voltage Regulator: FALSE; Oscillator Watchdog: TRUE; Packing: Reel; Peripheral Control Processor (PCP): FALSE; SRAM (incl. Cache): 52 KByte; Watchdog Timer: TRUE; Mounting Technology: Surface Mount; ComponentLink1Description: Manufacturer URL; ComponentLink1URL: http://www.infineon.com/; ComponentLink2Description: Datasheet; ComponentLink2URL: http://www.infineon.com/dgdl/TC1762_ds_v10.pdf?folderId=db3a304412b407950112b409ae7c0343&fileId=db3a304313698d9701136c5edd7c006d; ComponentLink3Description: Package Specification; ComponentLink3URL: http://www.infineon.com/dgdl/PG-LQFP-176-2-Package_Overview.pdf?folderId=db3a30431a5c32f2011a91a4a6285a2c&fileId=db3a30431a5c32f2011a91a4f6ee5a2d
footprint INF-PG-LQFP-176-2_N (QFP, 176-Leads, Body 24x24mm, Pitch 0.5mm, IPC Medium Density)
footprint INF-PG-LQFP-176-2_L (QFP, 176-Leads, Body 24x24mm, Pitch 0.5mm, IPC High Density)
footprint INF-PG-LQFP-176-2_M (QFP, 176-Leads, Body 24x24mm, Pitch 0.5mm, IPC Low Density)
part A pins: 1 P5.0 (io), 2 P5.1 (io), 3 P5.2 (io), 4 P5.3 (io), 5 P5.4 (io), 6 P5.5 (io), 7 P5.6 (io), 8 P5.7 (io), 13 P5.8 (io), 14 P5.9 (io), 15 P5.10 (io), 16 P5.11 (io), 17 P5.12 (io), 18 P5.13 (io), 19 P5.14 (io), 20 P5.15 (io), 71 P1.14 (io), 72 P1.13 (io), 73 P1.12 (io), 74 P2.0 (io), 75 P2.1 (io), 76 P2.2 (io), 77 P2.3 (io), 78 P2.4 (io), 79 P2.5 (io), 80 P2.6 (io), 81 P2.7 (io), 86 P4.0 (io), 87 P4.1 (io), 88 P4.2 (io), 90 P4.3 (io), 91 P1.0 (io), 92 P1.1 (io), 93 P1.2 (io), 94 P1.8 (io), 95 P1.9 (io), 96 P1.10 (io), 97 P1.11 (io), 98 P1.3 (io), 107 P1.4 (io), 108 P1.5 (io), 109 P1.6 (io), 110 P1.7 (io), 126 P3.5 (io), 127 P3.6 (io), 128 P3.8 (io), 129 P3.2 (io), 130 P3.3 (io), 131 P3.7 (io), 132 P3.4 (io), 133 P3.15 (io), 134 P3.14 (io), 135 P3.1 (io), 136 P3.0 (io), 137 P3.10 (io), 138 P3.9 (io), 142 P3.13 (io), 143 P3.12 (io), 144 P3.11 (io), 145 P0.0 (io), 146 P0.1 (io), 147 P0.2 (io), 148 P0.3 (io), 149 P0.8 (io), 150 P0.9 (io), 151 P0.10 (io), 152 P0.11 (io), 160 P2.9 (io), 161 P2.10 (io), 162 P2.11 (io), 163 P2.12 (io), 164 P2.8 (io), 165 P2.13 (io), 166 P0.4 (io), 167 P0.5 (io), 168 P0.12 (io), 169 P0.13 (io), 173 P0.6 (io), 174 P0.7 (io), 175 P0.14 (io), 176 P0.15 (io)
part B pins: 9 TRCLK (out) "Trace Clock for OCDS_L2 Lines", 21 NC "Not Connected", 28 AN35 (in) "Analog input 35", 29 AN34 (in) "Analog input 34", 30 AN33 (in) "Analog input 33", 31 AN32 (in) "Analog input 32", 32 AN31 (in) "Analog input 31", 33 AN30 (in) "Analog input 30", 34 AN29 (in) "Analog input 29", 35 AN28 (in) "Analog input 28", 36 AN7 (in) "Analog input 7", 37 AN27 (in) "Analog input 27", 38 AN26 (in) "Analog input 26", 39 AN25 (in) "Analog input 25", 40 AN24 (in) "Analog input 24", 41 AN23 (in) "Analog input 23", 42 AN22 (in) "Analog input 22", 43 AN21 (in) "Analog input 21", 44 AN20 (in) "Analog input 20", 45 AN19 (in) "Analog input 19", 46 AN18 (in) "Analog input 18", 47 AN17 (in) "Analog input 17", 48 AN16 (in) "Analog input 16", 49 AN15 (in) "Analog input 15", 50 AN14 (in) "Analog input 14", 55 AN13 (in) "Analog input 13", 56 AN12 (in) "Analog input 12", 57 AN11 (in) "Analog input 11", 58 AN10 (in) "Analog input 10", 59 AN9 (in) "Analog input 9", 60 AN8 (in) "Analog input 8", 61 AN6 (in) "Analog input 6", 62 AN5 (in) "Analog input 5", 63 AN4 (in) "Analog input 4", 64 AN3 (in) "Analog input 3", 65 AN2 (in) "Analog input 2", 66 AN1 (in) "Analog input 1", 67 AN0 (in) "Analog input 0", 89 NC "Not Connected", 102 XTAL1 "Oscillator/PLL/Clock Generator Input Pin", 103 XTAL2 "Oscillator/PLL/Clock Generator Output Pin", 111 TDI (in) "JTAG Module Serial Data Input", 112 TMS (in) "JTAG Module State Machine Control Input", 113 TDO (out) "JTAG Module Serial Data Output", 114 ~{TRST} (in) "JTAG Module Reset/Enable Input", 115 TCK (in) "JTAG Module Clock Input", 116 ~{BRKOUT} (io) "OCDS Break Output (Alternate Input)", 117 ~{BRKIN} (io) "OCDS Break Input (Alternate Output)", 118 ~{TESTMODE} (in) "Test Mode Select Input", 119 BYPASS (in) "PLL Clock Bypass Select Input", 120 ~{NMI} (in) "Non-Maskable Interrupt Input", 121 ~{PORST} (in) "Power-on Reset Input", 122 ~{HDRST} (io) "Hardware Reset Input / Reset Indication Output", 156 FCLN0 (out) "MSC0 Differential Driver Clock Output Negative", 157 FCLP0A (out) "MSC0 Differential Driver Clock Output Positive A", 158 SON0 (out) "MSC0 Differential Driver Serial Data Output Negative", 159 SOP0A (out) "MSC0 Differential Driver Serial Data Output Positive A"
part C pins: 10 VDD (power) "Core Power Supply (1.5 V)", 11 VDDP (power) "Port Power Supply (3.3 V)", 12 VSS (power) "Ground", 22 VSSAF (power) "FADC Analog Part Logic Ground for VDDAF", 23 VDDAF (power) "FADC Analog Part Logic Power Supply (1.5 V)", 24 VDDMF (power) "FADC Analog Part Power Supply (3.3 V)", 25 VSSMF (power) "FADC Analog Part Ground for VDDMF", 26 VFAREF (power) "FADC Reference Voltage", 27 VFAGND (power) "FADC Reference Ground", 51 VAGND0 (power) "ADC Reference Ground", 52 VAREF0 (power) "ADC Reference Voltage", 53 VSSM (power) "ADC Analog Part Ground for VDDM", 54 VDDM (power) "ADC Analog Part Power Supply (3.3 V)", 68 VDD (power) "Core Power Supply (1.5 V)", 69 VDDP (power) "Port Power Supply (3.3 V)", 70 VSS (power) "Ground", 82 VSS (power) "Ground", 83 VDDP (power) "Port Power Supply (3.3 V)", 84 VDD (power) "Core Power Supply (1.5 V)", 85 VSS (power) "Ground", 99 VDD (power) "Core Power Supply (1.5 V)", 100 VDDP (power) "Port Power Supply (3.3 V)", 101 VSS (power) "Ground", 104 VSSOSC (power) "Main Oscillator and PLL Ground", 105 VDDOSC (power) "Main Oscillator and PLL Power Supply (1.5 V)", 106 VDDOSC3 (power) "Main Oscillator Power Supply (3.3 V)", 123 VDD (power) "Core Power Supply (1.5 V)", 124 VDDP (power) "Port Power Supply (3.3 V)", 125 VSS (power) "Ground", 139 VDDP (power) "Port Power Supply (3.3 V)", 140 VSS (power) "Ground", 141 VDDFL3 (power) "Power Supply for Flash (3.3 V)", 153 VDD (power) "Core Power Supply (1.5 V)", 154 VDDP (power) "Port Power Supply (3.3 V)", 155 VSS (power) "Ground", 170 VDD (power) "Core Power Supply (1.5 V)", 171 VDDP (power) "Port Power Supply (3.3 V)", 172 VSS (power) "Ground"

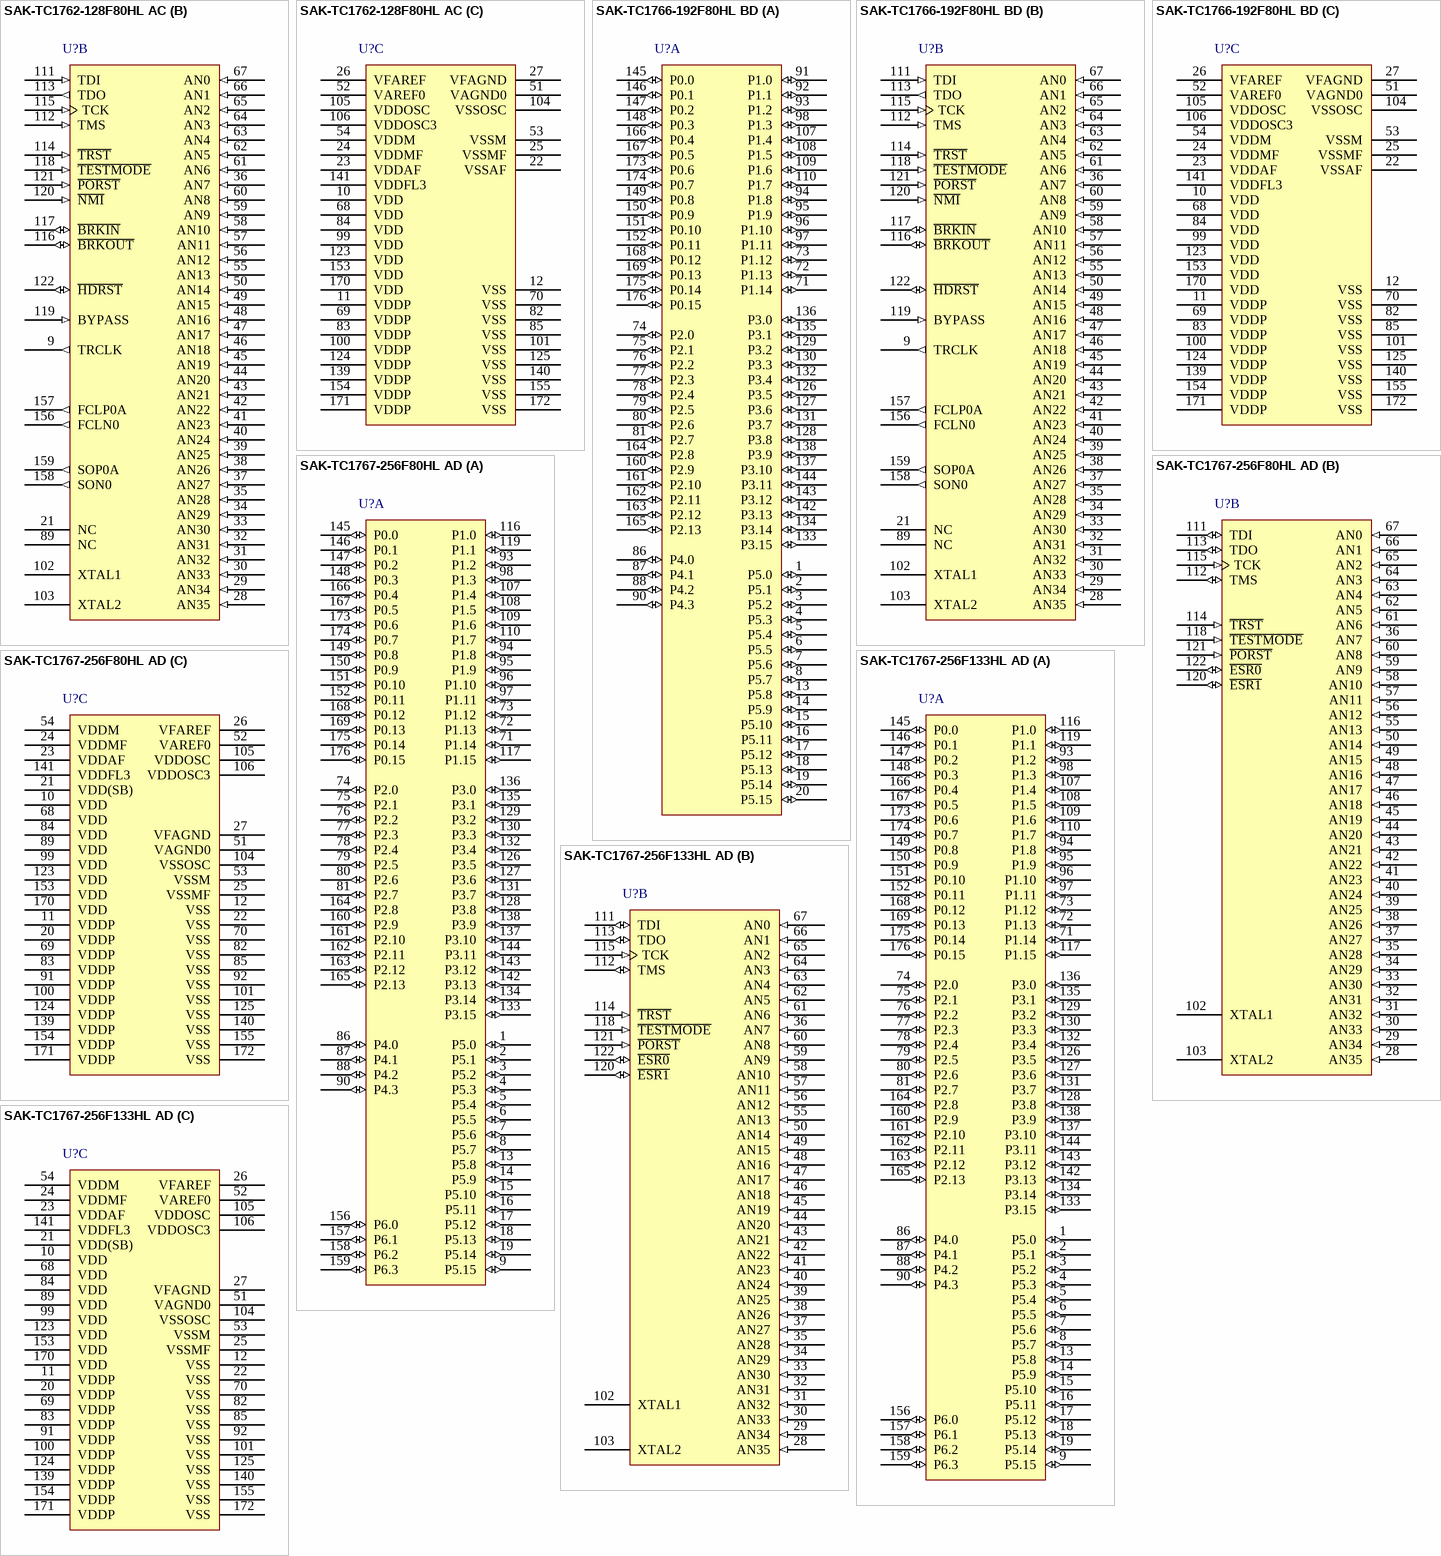
[diagram p52: symbols SAK-TC1762-128F80HL AC to SAK-TC1767-256F133HL AD]

## SAK-TC1762-128F80HL AC
designator U?
80 MHz AUDO MCU with 1 MB Program Memory, 52 KByte SRAM, 3.3 V, -40 to 125 degC, PG-LQFP-176, Reel, Green; Manufacturer: Infineon; PartNumber: SAK-TC1762-128F80HL AC; A / D input lines (incl. FADC): 36; CAN Nodes: 2; Digital I/O Lines: 81; DMA Channels: 8; DSP functionality (e.g MDU/MAC): TRUE; External Bus interface: FALSE; I/O Operation Voltages: 3.3 V; Instruction set architecture: TriCore v1.3; Instruction width [bits]: 32/16; LIN BSL loader (for fast Flash programming): FALSE; Max Clock Frequency: 80 MHz; Power Modes: 4; Program Memory: 1 MB; Serial I/O Interfaces: 5; Timed I/O Pins (PWM-Ch,CAPCOM): 48; Timer / Counter: 98; Type of Memory: Flash; Type of Serial I/O Interfaces: ASC(2), SSC(1), MSC(1), MLI(1); DatasheetVersion: Rev. 1.0; PackageVersion: Jun-08; PackageReference: PG-LQFP-176-2; PackageDescription: 176-Pin Plastic (Green) Low Profile Quad Flat Package, Body 24 x 24 mm, Pitch 0.5 mm; Supplier 1: Digi-Key; Supplier Part Number 1: SAK-TC1762-128F80HLACINTR-ND; Supplier 2: Digi-Key; Supplier Part Number 2: SAK-TC1762-128F80HLACINCT-ND; Supplier 3: Digi-Key; Supplier Part Number 3: SAK-TC1762-128F80HLACINDKR-ND; E2PROM Emulation (Data-Flash): TRUE; FlexRay TM: FALSE; Floating Point Unit: TRUE; Green: TRUE; Halogen-free: TRUE; Number of ADC Modules: 2; On-chip clock generation: TRUE; On-chip Voltage Regulator: FALSE; Oscillator Watchdog: TRUE; Packing: Reel; Peripheral Control Processor (PCP): TRUE; SRAM (incl. Cache): 52 KByte; Watchdog Timer: TRUE; Mounting Technology: Surface Mount; ComponentLink1Description: Manufacturer URL; ComponentLink1URL: http://www.infineon.com/; ComponentLink2Description: Datasheet; ComponentLink2URL: http://www.infineon.com/dgdl/TC1762_ds_v10.pdf?folderId=db3a304412b407950112b409ae7c0343&fileId=db3a304313698d9701136c5edd7c006d; ComponentLink3Description: Package Specification; ComponentLink3URL: http://www.infineon.com/dgdl/PG-LQFP-176-2-Package_Overview.pdf?folderId=db3a30431a5c32f2011a91a4a6285a2c&fileId=db3a30431a5c32f2011a91a4f6ee5a2d
footprint INF-PG-LQFP-176-2_N (QFP, 176-Leads, Body 24x24mm, Pitch 0.5mm, IPC Medium Density)
footprint INF-PG-LQFP-176-2_L (QFP, 176-Leads, Body 24x24mm, Pitch 0.5mm, IPC High Density)
footprint INF-PG-LQFP-176-2_M (QFP, 176-Leads, Body 24x24mm, Pitch 0.5mm, IPC Low Density)
part A pins: 1 P5.0 (io), 2 P5.1 (io), 3 P5.2 (io), 4 P5.3 (io), 5 P5.4 (io), 6 P5.5 (io), 7 P5.6 (io), 8 P5.7 (io), 13 P5.8 (io), 14 P5.9 (io), 15 P5.10 (io), 16 P5.11 (io), 17 P5.12 (io), 18 P5.13 (io), 19 P5.14 (io), 20 P5.15 (io), 71 P1.14 (io), 72 P1.13 (io), 73 P1.12 (io), 74 P2.0 (io), 75 P2.1 (io), 76 P2.2 (io), 77 P2.3 (io), 78 P2.4 (io), 79 P2.5 (io), 80 P2.6 (io), 81 P2.7 (io), 86 P4.0 (io), 87 P4.1 (io), 88 P4.2 (io), 90 P4.3 (io), 91 P1.0 (io), 92 P1.1 (io), 93 P1.2 (io), 94 P1.8 (io), 95 P1.9 (io), 96 P1.10 (io), 97 P1.11 (io), 98 P1.3 (io), 107 P1.4 (io), 108 P1.5 (io), 109 P1.6 (io), 110 P1.7 (io), 126 P3.5 (io), 127 P3.6 (io), 128 P3.8 (io), 129 P3.2 (io), 130 P3.3 (io), 131 P3.7 (io), 132 P3.4 (io), 133 P3.15 (io), 134 P3.14 (io), 135 P3.1 (io), 136 P3.0 (io), 137 P3.10 (io), 138 P3.9 (io), 142 P3.13 (io), 143 P3.12 (io), 144 P3.11 (io), 145 P0.0 (io), 146 P0.1 (io), 147 P0.2 (io), 148 P0.3 (io), 149 P0.8 (io), 150 P0.9 (io), 151 P0.10 (io), 152 P0.11 (io), 160 P2.9 (io), 161 P2.10 (io), 162 P2.11 (io), 163 P2.12 (io), 164 P2.8 (io), 165 P2.13 (io), 166 P0.4 (io), 167 P0.5 (io), 168 P0.12 (io), 169 P0.13 (io), 173 P0.6 (io), 174 P0.7 (io), 175 P0.14 (io), 176 P0.15 (io)
part B pins: 9 TRCLK (out) "Trace Clock for OCDS_L2 Lines", 21 NC "Not Connected", 28 AN35 (in) "Analog input 35", 29 AN34 (in) "Analog input 34", 30 AN33 (in) "Analog input 33", 31 AN32 (in) "Analog input 32", 32 AN31 (in) "Analog input 31", 33 AN30 (in) "Analog input 30", 34 AN29 (in) "Analog input 29", 35 AN28 (in) "Analog input 28", 36 AN7 (in) "Analog input 7", 37 AN27 (in) "Analog input 27", 38 AN26 (in) "Analog input 26", 39 AN25 (in) "Analog input 25", 40 AN24 (in) "Analog input 24", 41 AN23 (in) "Analog input 23", 42 AN22 (in) "Analog input 22", 43 AN21 (in) "Analog input 21", 44 AN20 (in) "Analog input 20", 45 AN19 (in) "Analog input 19", 46 AN18 (in) "Analog input 18", 47 AN17 (in) "Analog input 17", 48 AN16 (in) "Analog input 16", 49 AN15 (in) "Analog input 15", 50 AN14 (in) "Analog input 14", 55 AN13 (in) "Analog input 13", 56 AN12 (in) "Analog input 12", 57 AN11 (in) "Analog input 11", 58 AN10 (in) "Analog input 10", 59 AN9 (in) "Analog input 9", 60 AN8 (in) "Analog input 8", 61 AN6 (in) "Analog input 6", 62 AN5 (in) "Analog input 5", 63 AN4 (in) "Analog input 4", 64 AN3 (in) "Analog input 3", 65 AN2 (in) "Analog input 2", 66 AN1 (in) "Analog input 1", 67 AN0 (in) "Analog input 0", 89 NC "Not Connected", 102 XTAL1 "Oscillator/PLL/Clock Generator Input Pin", 103 XTAL2 "Oscillator/PLL/Clock Generator Output Pin", 111 TDI (in) "JTAG Module Serial Data Input", 112 TMS (in) "JTAG Module State Machine Control Input", 113 TDO (out) "JTAG Module Serial Data Output", 114 ~{TRST} (in) "JTAG Module Reset/Enable Input", 115 TCK (in) "JTAG Module Clock Input", 116 ~{BRKOUT} (io) "OCDS Break Output (Alternate Input)", 117 ~{BRKIN} (io) "OCDS Break Input (Alternate Output)", 118 ~{TESTMODE} (in) "Test Mode Select Input", 119 BYPASS (in) "PLL Clock Bypass Select Input", 120 ~{NMI} (in) "Non-Maskable Interrupt Input", 121 ~{PORST} (in) "Power-on Reset Input", 122 ~{HDRST} (io) "Hardware Reset Input / Reset Indication Output", 156 FCLN0 (out) "MSC0 Differential Driver Clock Output Negative", 157 FCLP0A (out) "MSC0 Differential Driver Clock Output Positive A", 158 SON0 (out) "MSC0 Differential Driver Serial Data Output Negative", 159 SOP0A (out) "MSC0 Differential Driver Serial Data Output Positive A"
part C pins: 10 VDD (power) "Core Power Supply (1.5 V)", 11 VDDP (power) "Port Power Supply (3.3 V)", 12 VSS (power) "Ground", 22 VSSAF (power) "FADC Analog Part Logic Ground for VDDAF", 23 VDDAF (power) "FADC Analog Part Logic Power Supply (1.5 V)", 24 VDDMF (power) "FADC Analog Part Power Supply (3.3 V)", 25 VSSMF (power) "FADC Analog Part Ground for VDDMF", 26 VFAREF (power) "FADC Reference Voltage", 27 VFAGND (power) "FADC Reference Ground", 51 VAGND0 (power) "ADC Reference Ground", 52 VAREF0 (power) "ADC Reference Voltage", 53 VSSM (power) "ADC Analog Part Ground for VDDM", 54 VDDM (power) "ADC Analog Part Power Supply (3.3 V)", 68 VDD (power) "Core Power Supply (1.5 V)", 69 VDDP (power) "Port Power Supply (3.3 V)", 70 VSS (power) "Ground", 82 VSS (power) "Ground", 83 VDDP (power) "Port Power Supply (3.3 V)", 84 VDD (power) "Core Power Supply (1.5 V)", 85 VSS (power) "Ground", 99 VDD (power) "Core Power Supply (1.5 V)", 100 VDDP (power) "Port Power Supply (3.3 V)", 101 VSS (power) "Ground", 104 VSSOSC (power) "Main Oscillator and PLL Ground", 105 VDDOSC (power) "Main Oscillator and PLL Power Supply (1.5 V)", 106 VDDOSC3 (power) "Main Oscillator Power Supply (3.3 V)", 123 VDD (power) "Core Power Supply (1.5 V)", 124 VDDP (power) "Port Power Supply (3.3 V)", 125 VSS (power) "Ground", 139 VDDP (power) "Port Power Supply (3.3 V)", 140 VSS (power) "Ground", 141 VDDFL3 (power) "Power Supply for Flash (3.3 V)", 153 VDD (power) "Core Power Supply (1.5 V)", 154 VDDP (power) "Port Power Supply (3.3 V)", 155 VSS (power) "Ground", 170 VDD (power) "Core Power Supply (1.5 V)", 171 VDDP (power) "Port Power Supply (3.3 V)", 172 VSS (power) "Ground"